# Altium footprint library C0603.PcbLib: 1 footprints
Each footprint in its own frame and in the unit in brackets; x right, y up, seen from the top. Pads: shape width x height; smd on the part's side, far side on the other; paste and mask are expansions set on the pad; w line width, h text height; cw(c..) or ccw(c..) is an arc to the next point about the centre after c.
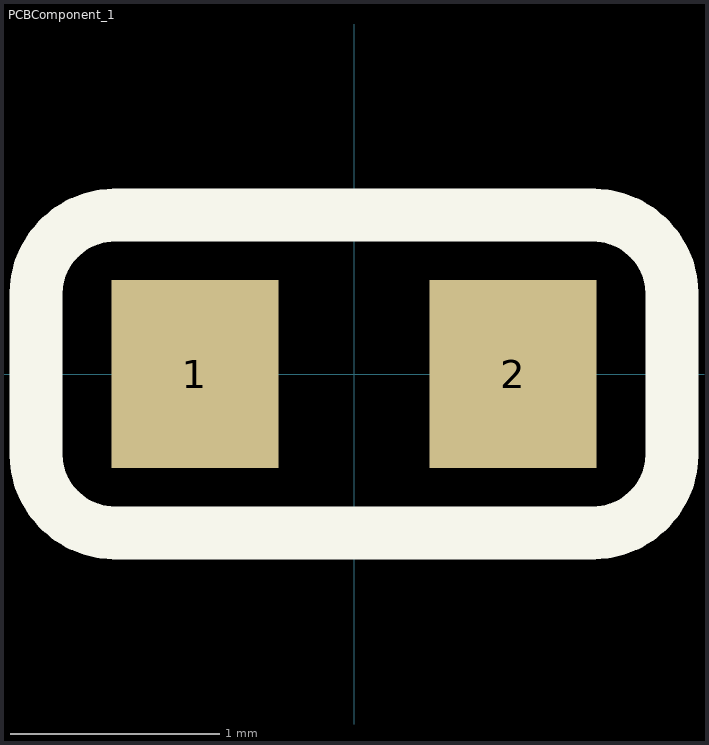
[diagram p0: the footprint, top view; thin cyan lines are the x and y axes]

## PCBComponent_1 [mm]
pads (2):
  rect 0.8x0.9 smd: 1(-0.762,0) 2(0.762,0)
Top Overlay:
  lines w0.254: 0.254,-0.762 1.143,-0.762 ccw(c1.143,-0.381) 1.524,-0.381 1.524,0.381 ccw(c1.143,0.381) 1.143,0.762 0.254,0.762 -1.143,0.762 ccw(c-1.143,0.381) -1.524,0.381 -1.524,-0.381 ccw(c-1.143,-0.381) -1.143,-0.762 0.381,-0.762
3D body "C0603.SLDPRT": height 0.8, standoff 0, extent -0.793,-0.4 0.807,0.4